# EAGLE library part 5261BS (library ncue_ee)
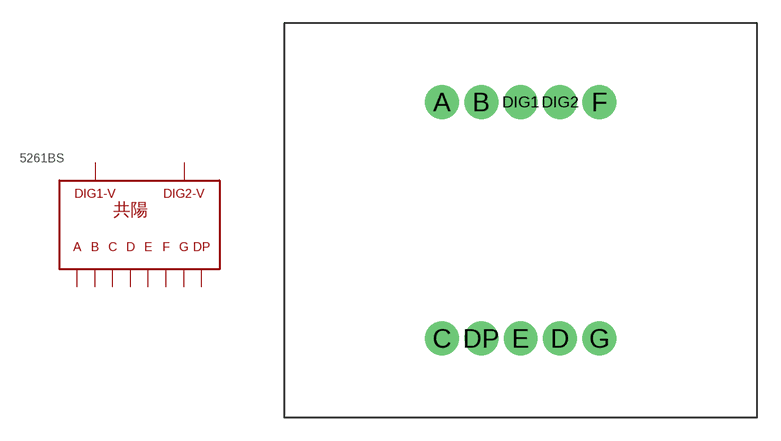
[diagram p6: symbol with the pads of 5261BS; footprint 5261BS]

Designator prefix 5261BS

## 5261BS  [5261BS]
A  A
B  B
C  C
D  D
DIG1  DIG1
DIG2  DIG2
DP  DP
E  E
F  F
G  G

## Footprint 5261BS (pad centres in mm)
drill 1.016 pad 2.184: A -5.08,7.62; B -2.54,7.62; C -5.08,-7.62; D 2.54,-7.62; DIG1 0,7.62; DIG2 2.54,7.62; DP -2.54,-7.62; E 0,-7.62; F 5.08,7.62; G 5.08,-7.62